# EAGLE library part SST25VF032B (library SST25VF032B SOIC_8)
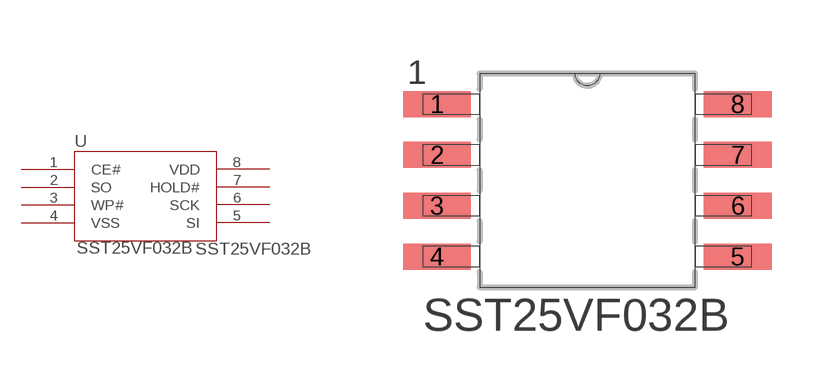
[diagram p0: symbol with the pads of SOIC-8; footprint SOIC-8]

Designator prefix -

## SST25VF032B  [SOIC-8]
1  CE#  in
2  SO  out
3  WP#  in
4  VSS  pwr
5  SI  in
6  SCK  in
7  HOLD#  in
8  VDD  pwr

## Footprint SOIC-8 (pad centres in mm)
smd 1.7 x 0.65: 1 -3.759,1.905; 2 -3.759,0.635; 3 -3.759,-0.635; 4 -3.759,-1.905; 5 3.759,-1.905; 6 3.759,-0.635; 7 3.759,0.635; 8 3.759,1.905